# EAGLE library part 2092-1306 (library con-wago_5.0 mm)
Serie 2092, Federleiste mit geraden Lötstiften 6-polig / Series 2092, Female header with straight solder pins 6-pole Polzahl / Pole No.: 6 Rastermaß / Pitch: 5 mm Bemessungsspannung / Rated Voltage: 320 V Nennstrom / Nominal Current: 16 A Lötstiftlänge: / Solder Pin Length: 3.6 mm Farbe / Color: lichtgrau / light gray Stand: 01.01.2013. Die jeweils aktuellen Daten zu diesem Artikel finden Sie in unserem Produktkatalog, den Sie unter www.wago.com einsehen können. As of: 01/01/2013. Please find the newest data for this article in our product catalogue, which can be viewed under www.wago.com.
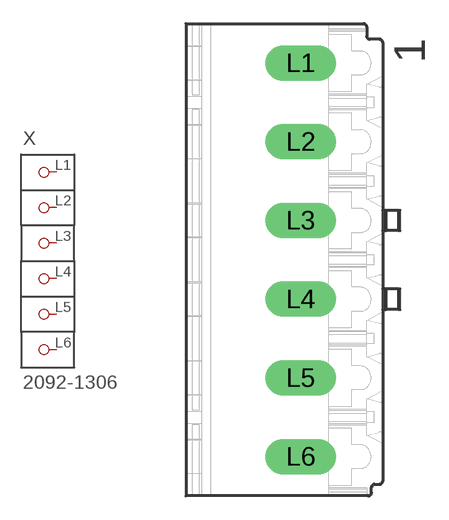
[diagram p16: symbol with the pads of P-2092-1306; footprint P-2092-1306]

Designator prefix X

## 2092-1306  [P-2092-1306]
L1  P1
L2  P2
L3  P3
L4  P4
L5  P5
L6  P6

## Footprint P-2092-1306 (pad centres in mm)
drill 1.5 pad 2 long: L1 0.495,12.499; L2 0.495,7.499; L3 0.495,2.499; L4 0.495,-2.501; L5 0.495,-7.501; L6 0.495,-12.501